# EAGLE library part FFC_CON (library James_custom)
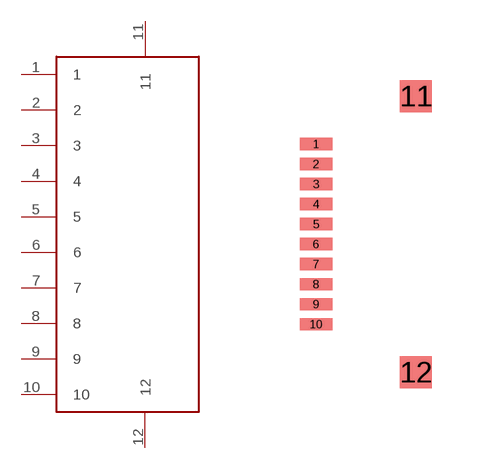
[diagram p2: symbol with the pads of FFC_CON; footprint FFC_CON]

Designator prefix -

## FFC_CON  [FFC_CON]
1  1
2  2
3  3
4  4
5  5
6  6
7  7
8  8
9  9
10  10
11  11
12  12

## Footprint FFC_CON (pad centres in mm)
smd 0.813 x 0.305: 1 -1.905,2.309; 2 -1.905,1.808; 3 -1.905,1.308; 4 -1.905,0.808; 5 -1.905,0.307; 6 -1.905,-0.193; 7 -1.905,-0.693; 8 -1.905,-1.194; 9 -1.905,-1.694; 10 -1.905,-2.195
smd 0.8 x 0.8: 11 0.597,3.509; 12 0.597,-3.394